# EAGLE library part PCI-E16X (library con-pci_express%28pci-e%29)
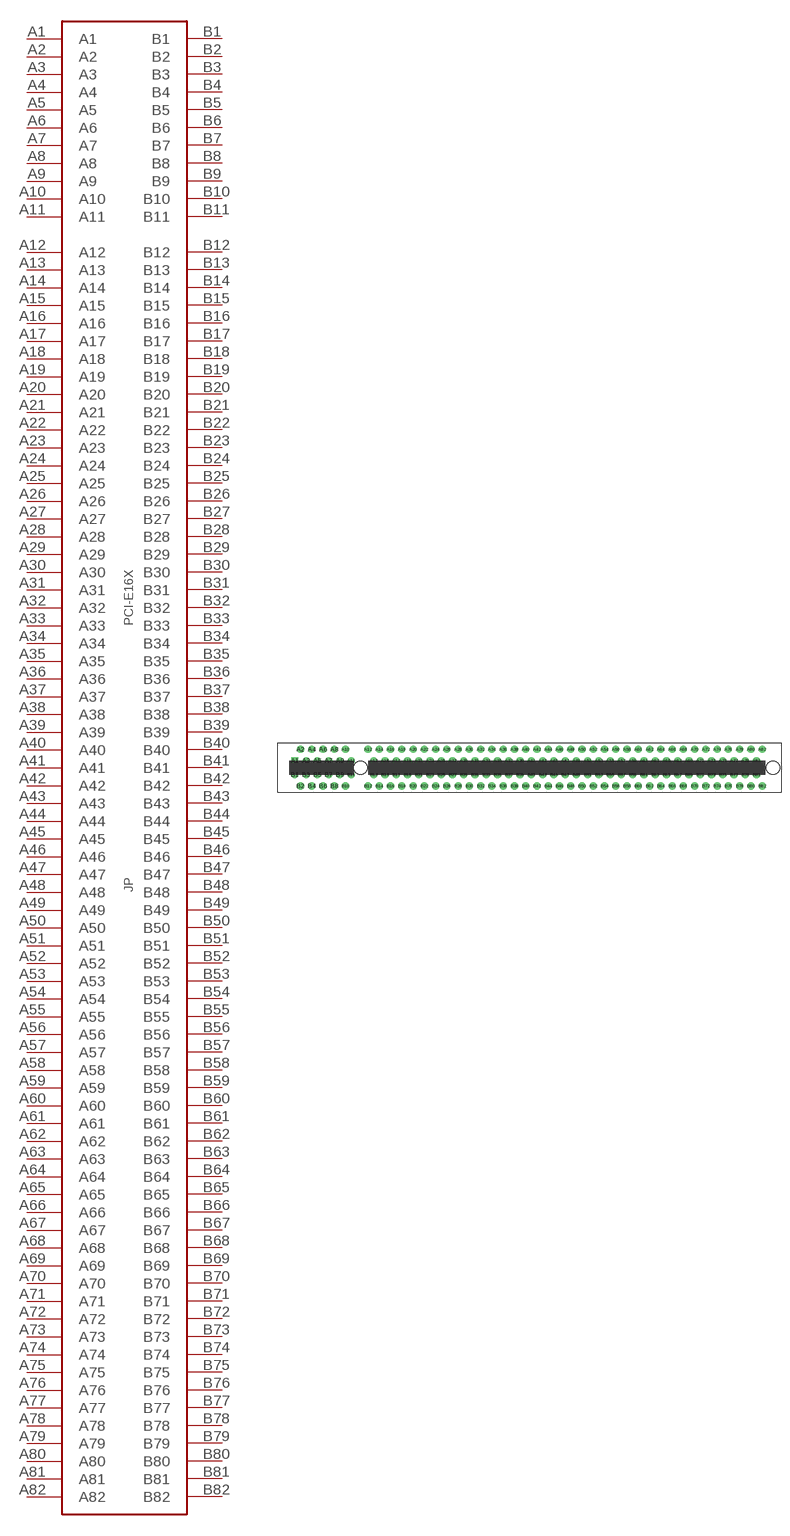
[diagram p0: symbol with the pads of PCI-E_164_CONN; footprint PCI-E_164_CONN]

Designator prefix JP

## PCI-E16X  [PCI-E_164_CONN]
A1  A1
A2  A2
A3  A3
A4  A4
A5  A5
A6  A6
A7  A7
A8  A8
A9  A9
A10  A10
A11  A11
A12  A12
A13  A13
A14  A14
A15  A15
A16  A16
A17  A17
A18  A18
A19  A19
A20  A20
A21  A21
A22  A22
A23  A23
A24  A24
A25  A25
A26  A26
A27  A27
A28  A28
A29  A29
A30  A30
A31  A31
A32  A32
A33  A33
A34  A34
A35  A35
A36  A36
A37  A37
A38  A38
A39  A39
A40  A40
A41  A41
A42  A42
A43  A43
A44  A44
A45  A45
A46  A46
A47  A47
A48  A48
A49  A49
A50  A50
A51  A51
A52  A52
A53  A53
A54  A54
A55  A55
A56  A56
A57  A57
A58  A58
A59  A59
A60  A60
A61  A61
A62  A62
A63  A63
A64  A64
A65  A65
A66  A66
A67  A67
A68  A68
A69  A69
A70  A70
A71  A71
A72  A72
A73  A73
A74  A74
A75  A75
A76  A76
A77  A77
A78  A78
A79  A79
A80  A80
A81  A81
A82  A82
B1  B1
B2  B2
B3  B3
B4  B4
B5  B5
B6  B6
B7  B7
B8  B8
B9  B9
B10  B10
B11  B11
B12  B12
B13  B13
B14  B14
B15  B15
B16  B16
B17  B17
B18  B18
B19  B19
B20  B20
B21  B21
B22  B22
B23  B23
B24  B24
B25  B25
B26  B26
B27  B27
B28  B28
B29  B29
B30  B30
B31  B31
B32  B32
B33  B33
B34  B34
B35  B35
B36  B36
B37  B37
B38  B38
B39  B39
B40  B40
B41  B41
B42  B42
B43  B43
B44  B44
B45  B45
B46  B46
B47  B47
B48  B48
B49  B49
B50  B50
B51  B51
B52  B52
B53  B53
B54  B54
B55  B55
B56  B56
B57  B57
B58  B58
B59  B59
B60  B60
B61  B61
B62  B62
B63  B63
B64  B64
B65  B65
B66  B66
B67  B67
B68  B68
B69  B69
B70  B70
B71  B71
B72  B72
B73  B73
B74  B74
B75  B75
B76  B76
B77  B77
B78  B78
B79  B79
B80  B80
B81  B81
B82  B82

## Footprint PCI-E_164_CONN (pad centres in mm)
drill 0.7 pad 1.27 square: A1 -40,1.5
drill 0.7 pad 1.27: A2 -39,3.5; A3 -38,1.5; A4 -37,3.5; A5 -36,1.5; A6 -35,3.5; A7 -34,1.5; A8 -33,3.5; A9 -32,1.5; A10 -31,3.5; A11 -30,1.5; A12 -27,3.5; A13 -26,1.5; A14 -25,3.5; A15 -24,1.5; A16 -23,3.5; A17 -22,1.5; A18 -21,3.5; A19 -20,1.5; A20 -19,3.5; A21 -18,1.5; A22 -17,3.5; A23 -16,1.5; A24 -15,3.5; A25 -14,1.5; A26 -13,3.5; A27 -12,1.5; A28 -11,3.5; A29 -10,1.5; A30 -9,3.5; A31 -8,1.5; A32 -7,3.5; A33 -6,1.5; A34 -5,3.5; A35 -4,1.5; A36 -3,3.5; A37 -2,1.5; A38 -1,3.5; A39 0,1.5; A40 1,3.5; A41 2,1.5; A42 3,3.5; A43 4,1.5; A44 5,3.5; A45 6,1.5; A46 7,3.5; A47 8,1.5; A48 9,3.5; A49 10,1.5; A50 11,3.5; A51 12,1.5; A52 13,3.5; A53 14,1.5; A54 15,3.5; A55 16,1.5; A56 17,3.5; A57 18,1.5; A58 19,3.5; A59 20,1.5; A60 21,3.5; A61 22,1.5; A62 23,3.5; A63 24,1.5; A64 25,3.5; A65 26,1.5; A66 27,3.5; A67 28,1.5; A68 29,3.5; A69 30,1.5; A70 31,3.5; A71 32,1.5; A72 33,3.5; A73 34,1.5; A74 35,3.5; A75 36,1.5; A76 37,3.5; A77 38,1.5; A78 39,3.5; A79 40,1.5; A80 41,3.5; A81 42,1.5; A82 43,3.5; B1 -40,-1; B2 -39,-3; B3 -38,-1; B4 -37,-3; B5 -36,-1; B6 -35,-3; B7 -34,-1; B8 -33,-3; B9 -32,-1; B10 -31,-3; B11 -30,-1; B12 -27,-3; B13 -26,-1; B14 -25,-3; B15 -24,-1; B16 -23,-3; B17 -22,-1; B18 -21,-3; B19 -20,-1; B20 -19,-3; B21 -18,-1; B22 -17,-3; B23 -16,-1; B24 -15,-3; B25 -14,-1; B26 -13,-3; B27 -12,-1; B28 -11,-3; B29 -10,-1; B30 -9,-3; B31 -8,-1; B32 -7,-3; B33 -6,-1; B34 -5,-3; B35 -4,-1; B36 -3,-3; B37 -2,-1; B38 -1,-3; B39 0,-1; B40 1,-3; B41 2,-1; B42 3,-3; B43 4,-1; B44 5,-3; B45 6,-1; B46 7,-3; B47 8,-1; B48 9,-3; B49 10,-1; B50 11,-3; B51 12,-1; B52 13,-3; B53 14,-1; B54 15,-3; B55 16,-1; B56 17,-3; B57 18,-1; B58 19,-3; B59 20,-1; B60 21,-3; B61 22,-1; B62 23,-3; B63 24,-1; B64 25,-3; B65 26,-1; B66 27,-3; B67 28,-1; B68 29,-3; B69 30,-1; B70 31,-3; B71 32,-1; B72 33,-3; B73 34,-1; B74 35,-3; B75 36,-1; B76 37,-3; B77 38,-1; B78 39,-3; B79 40,-1; B80 41,-3; B81 42,-1; B82 43,-3
hole 2.35 at -28.35,0.25
hole 2.35 at 44.9,0.25